# EAGLE library part 104809-11 (library con-tyco-modu)
HEADER
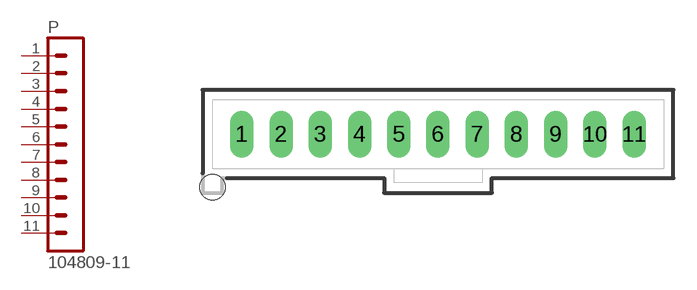
[diagram p52: symbol with the pads of 104809-11; footprint 104809-11]

Designator prefix P

## 104809-11  [104809-11]
1  1  pas
2  2  pas
3  3  pas
4  4  pas
5  5  pas
6  6  pas
7  7  pas
8  8  pas
9  9  pas
10  10  pas
11  11  pas

## Footprint 104809-11 (pad centres in mm)
HEADER
drill 1.016 long: 1 -12.7,0; 2 -10.16,0; 3 -7.62,0; 4 -5.08,0; 5 -2.54,0; 6 0,0; 7 2.54,0; 8 5.08,0; 9 7.62,0; 10 10.16,0; 11 12.7,0
hole 1.651 at -14.605,-3.429